# EAGLE library part HEADER_10P (library Public)
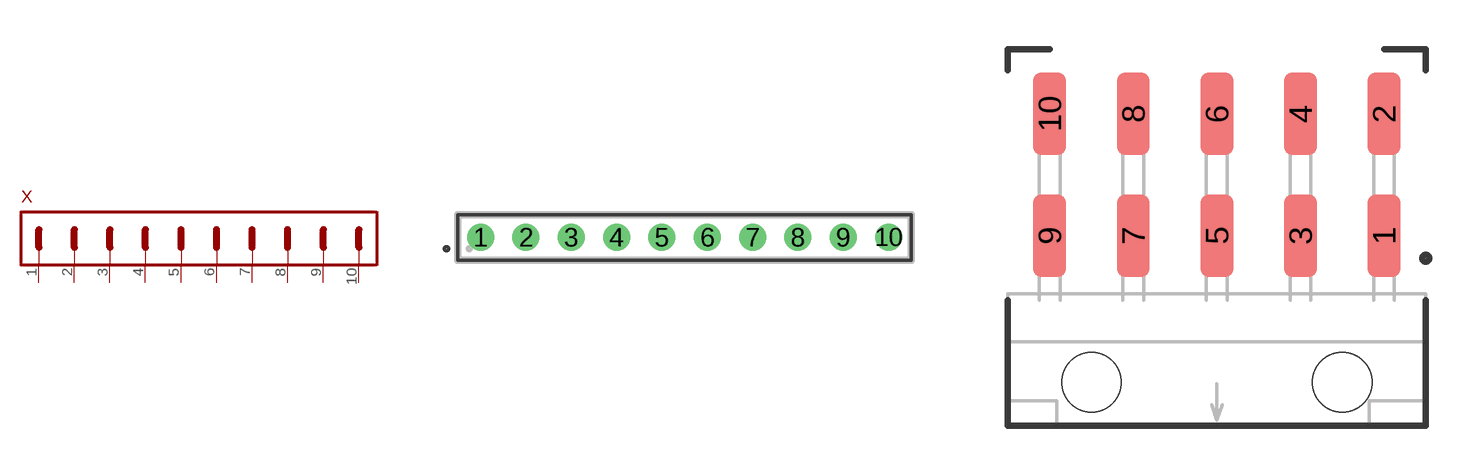
[diagram p19: symbol with the pads of HEADER_10P_1ROW_RM2.54MM_THT; footprints HEADER_10P_1ROW_RM2.54MM_THT, HEADER_10P_2ROW_RM2.54MM_SMD_HORIZONTAL_WUERTH_610110249121]

Designator prefix X

## HEADER_10P(RM2.54MM_1ROW_THT)'  [HEADER_10P_1ROW_RM2.54MM_THT]
1  PIN1
2  PIN2
3  PIN3
4  PIN4
5  PIN5
6  PIN6
7  PIN7
8  PIN8
9  PIN9
10  PIN10

## HEADER_10P(RM2.54MM_2ROW_SMD_HORIZONTAL)  [HEADER_10P_2ROW_RM2.54MM_SMD_HORIZONTAL_WUERTH_610110249121]
Pads as for HEADER_10P_1ROW_RM2.54MM_THT

## HEADER_10P(RM2.54MM_2ROW_THT)  [HEADER_10P_2ROW_RM2.54MM_THT]
Pads as for HEADER_10P_1ROW_RM2.54MM_THT

## HEADER_10P(JST-XH)  [JST-XH_10]
Pads as for HEADER_10P_1ROW_RM2.54MM_THT

## HEADER_10P(BOXHEADER)  [BOXHEADER_10]
Pads as for HEADER_10P_1ROW_RM2.54MM_THT

## Footprint HEADER_10P_1ROW_RM2.54MM_THT (pad centres in mm)
drill 1: 1 -11.43,0; 2 -8.89,0; 3 -6.35,0; 4 -3.81,0; 5 -1.27,0; 6 1.27,0; 7 3.81,0; 8 6.35,0; 9 8.89,0; 10 11.43,0

## Footprint HEADER_10P_2ROW_RM2.54MM_SMD_HORIZONTAL_WUERTH_610110249121 (pad centres in mm)
smd 1 x 2.5: 1 5.08,-1.85; 2 5.08,1.85; 3 2.54,-1.85; 4 2.54,1.85; 5 0,-1.85; 6 0,1.85; 7 -2.54,-1.85; 8 -2.54,1.85; 9 -5.08,-1.85; 10 -5.08,1.85
hole 1.8 at 3.81,-6.3
hole 1.8 at -3.81,-6.3

## Footprint HEADER_10P_2ROW_RM2.54MM_THT (pad centres in mm)
drill 1: 1 -5.08,-1.27; 2 -5.08,1.27; 3 -2.54,-1.27; 4 -2.54,1.27; 5 0,-1.27; 6 0,1.27; 7 2.54,-1.27; 8 2.54,1.27; 9 5.08,-1.27; 10 5.08,1.27

## Footprint JST-XH_10 (pad centres in mm)
drill 1: 1 -11.43,0; 2 -8.89,0; 3 -6.35,0; 4 -3.81,0; 5 -1.27,0; 6 1.27,0; 7 3.81,0; 8 6.35,0; 9 8.89,0; 10 11.43,0

## Footprint BOXHEADER_10 (pad centres in mm)
drill 1: 1 5.08,1.27; 2 5.08,-1.27; 3 2.54,1.27; 4 2.54,-1.27; 5 0,1.27; 6 0,-1.27; 7 -2.54,1.27; 8 -2.54,-1.27; 9 -5.08,1.27; 10 -5.08,-1.27